# Altium footprint library IC.PcbLib: 29 footprints (part 1 of 2)
Each footprint in its own frame and in the unit in brackets; x right, y up, seen from the top. Pads: shape width x height; smd on the part's side, far side on the other; paste and mask are expansions set on the pad; w line width, h text height; cw(c..) or ccw(c..) is an arc to the next point about the centre after c.
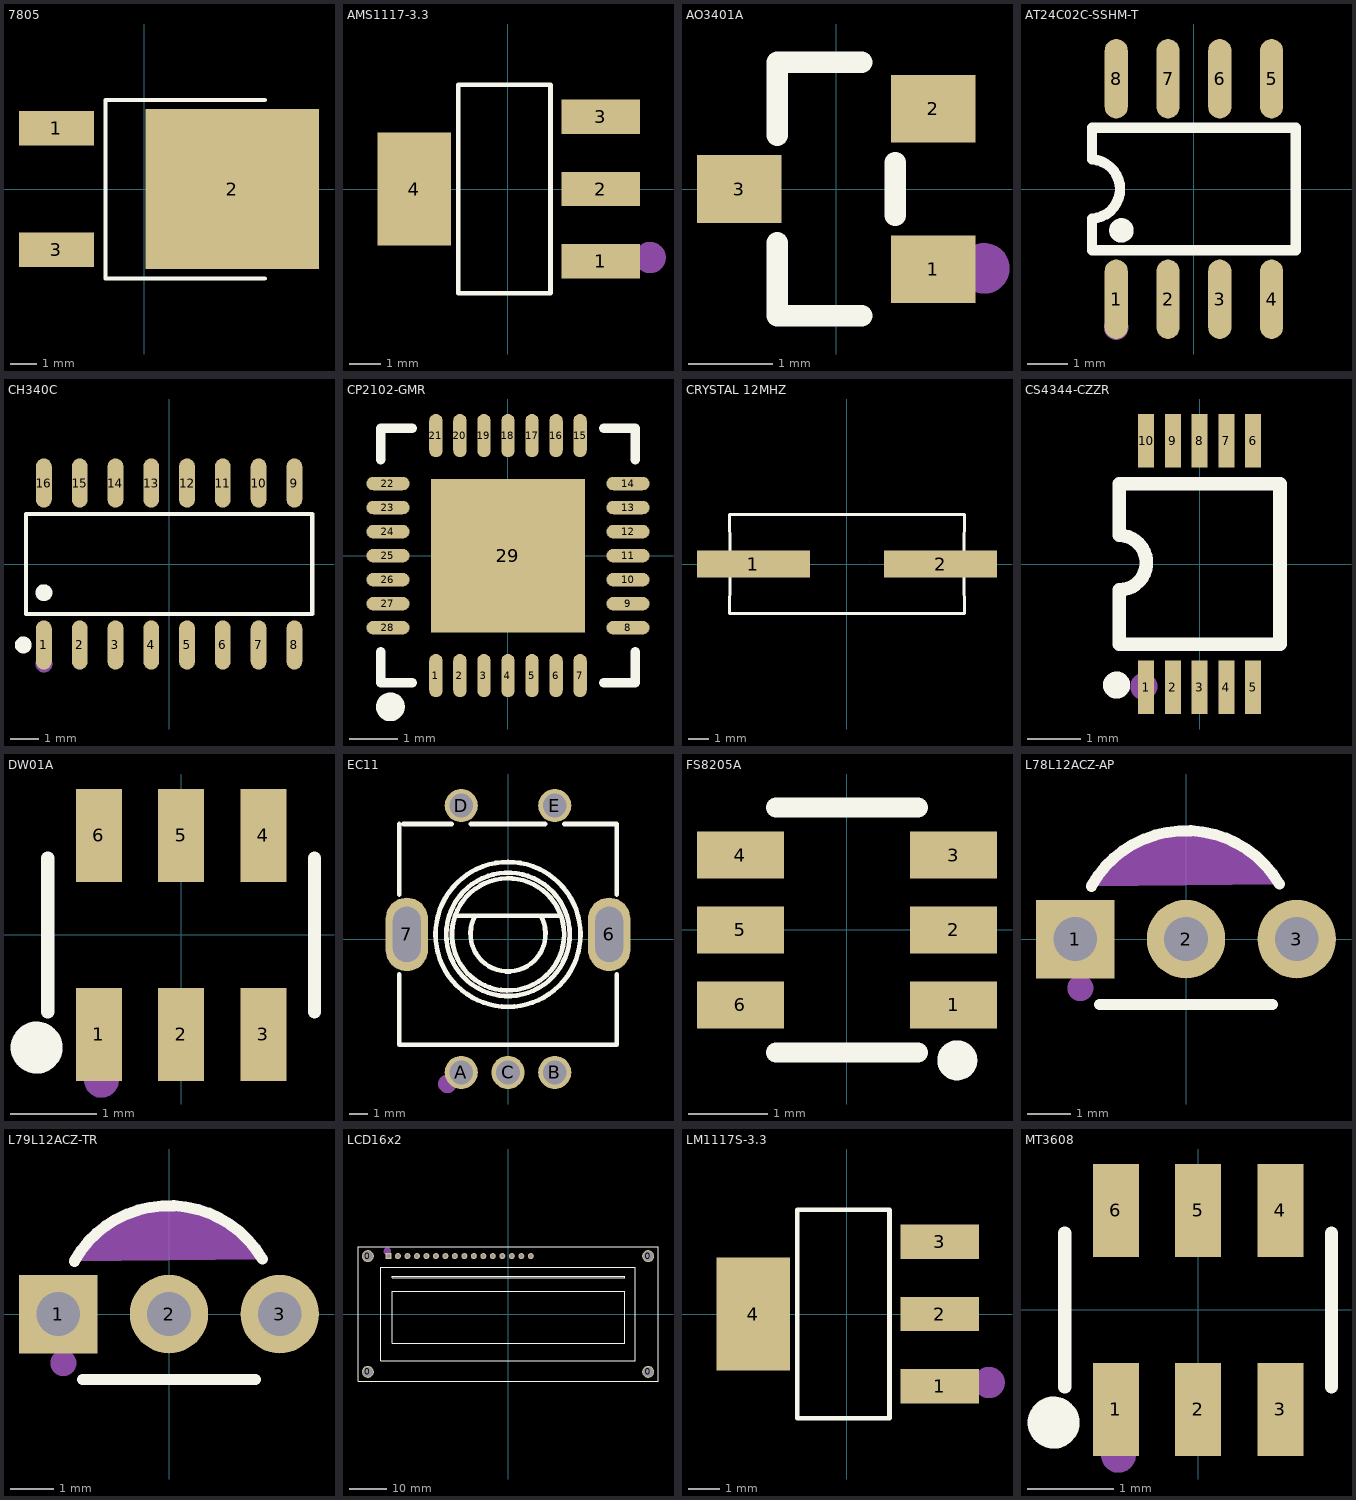
[diagram p0: the footprints below, top view; thin cyan lines are the x and y axes]

## 7805 [mm]
pads (3):
  rect 2.8x1.3 smd paste+0 mask+0.051: 1(-3.292,2.273) 3(-3.292,-2.273)
  rect 6.5x6 smd paste+0 mask+0.051: 2(3.292,0)
Top Overlay:
  lines w0.152: 4.511,-3.353 -1.456,-3.353 -1.456,3.34 4.511,3.34
Mechanical 15:
  circle w0.6: c-3.962,2.286 r0.3
3D body "L78M05CDT.STEP": height 2.41, standoff 0, extent -3.328,-3.25 6.397,3.25

## AMS1117-3.3 [mm]
pads (4):
  rect 2.5x1.1 smd paste+0 mask+0.051: 1(2.97,-2.3) 2(2.97,0) 3(2.97,2.3)
  rect 2.34x3.6 smd paste+0 mask+0.051: 4(-2.97,0)
Top Overlay:
  lines w0.152: -1.571,-3.326 -1.571,3.326 1.371,3.326 1.371,-3.326 -1.571,-3.326
Mechanical 15:
  circle w0.5: c4.552,-2.188 r0.25
3D body "step_temp.STEP": height 1.8, standoff 0, extent -3.372,-3.251 3.626,3.251

## AO3401A [mm]
pads (3):
  rect 1x0.8 smd paste+0 mask+0.051: 1(1.15,-0.95) 2(1.15,0.95) 3(-1.15,0)
Top Overlay:
  lines w0.254: -0.7,-0.636 -0.7,-1.5 0.3,-1.5 ; -0.7,0.636 -0.7,1.5 0.3,1.5 ; 0.7,-0.314 0.7,0.314
Mechanical 15:
  circle w0.3: c1.753,-0.94 r0.15
3D body "AO3401--3DModel-STEP-510211.STEP": height 1.26, standoff 0, extent -1.4,-1.45 1.4,1.45

## AT24C02C-SSHM-T [mil]
pads (8):
  oval 22.38x76.78 smd paste+0 mask+2: 1(-75,-106.5) 2(-25,-106.5) 3(25,-106.5) 4(75,-106.5) 5(75,106.5) 6(25,106.5) 7(-25,106.5) 8(-75,106.5)
Top Overlay:
  circle w11.81: c-70,-40 r5.91
  lines w10: -98.43,-28.61 ccw(c-99.99,0) -98.23,28.59 ; -98.42,-28.61 -98.42,-59.05 98.42,-59.05 98.42,59.05 -98.42,59.05 -98.42,28.59
Mechanical 15:
  circle w11.81: c-75,-133.86 r5.91
3D body "SOIC-8.step": height 59.84, standoff 0, extent -96.46,-115.14 96.46,117.14

## CH340C [mm]
pads (16):
  oval 0.56x1.745 smd paste+0 mask+0.051: 1(-4.445,-2.873) 2(-3.175,-2.873) 3(-1.905,-2.873) 4(-0.635,-2.873) 5(0.635,-2.873) 6(1.905,-2.873) 7(3.175,-2.873) 8(4.445,-2.873) 9(4.445,2.873) 10(3.175,2.873) 11(1.905,2.873) 12(0.635,2.873) 13(-0.635,2.873) 14(-1.905,2.873) 15(-3.175,2.873) 16(-4.445,2.873)
Top Overlay:
  circle w0.3: c-4.445,-1.019 r0.15
  circle w0.3: c-5.177,-2.872 r0.15
  lines w0.152: -5.076,-1.771 -5.076,1.771 5.076,1.771 5.076,-1.771 -5.076,-1.771
Mechanical 15:
  circle w0.3: c-4.445,-3.55 r0.15
3D body "CH340C.STEP": height 1.92, standoff 0, extent -4.949,-3.255 5.051,3.205

## CP2102-GMR [mm]
pads (29):
  oval 0.28x0.9 smd paste-100 mask+0.051: 1(-1.501,-2.5) 2(-1.001,-2.5) 3(-0.501,-2.5) 4(0,-2.5) 5(0.5,-2.5) 6(1.001,-2.5) 7(1.501,-2.5) 15(1.501,2.5) 16(1.001,2.5) 17(0.5,2.5) 18(0,2.5) 19(-0.501,2.5) 20(-1.001,2.5) 21(-1.501,2.5)
  oval 0.9x0.28 smd paste-100 mask+0.051: 8(2.5,-1.501) 9(2.5,-1.001) 10(2.5,-0.501) 11(2.5,0) 12(2.5,0.5) 13(2.5,1.001) 14(2.5,1.501) 22(-2.5,1.501) 23(-2.5,1.001) 24(-2.5,0.5) 25(-2.5,0) 26(-2.5,-0.501) 27(-2.5,-1.001) 28(-2.5,-1.501)
  rect 3.2x3.2 smd paste-100 mask+0.051: 29(0,0)
Top Overlay:
  lines w0.2: -2.65,-2 -2.65,-2.65 -2,-2.65 ; -2.65,2 -2.65,2.65 -2,2.65 ; 2,-2.65 2.65,-2.65 2.65,-2 ; 2,2.65 2.65,2.65 2.65,2
  lines w0.3: -2.451,-3 ccw(c-2.45,-3.15) -2.449,-3
Top Paste:
  drawing of 29 lines, arcs and shapes, not listed
3D body "step_temp.STEP": height 1, standoff 0, extent -2.5,-2.5 2.5,2.5

## CRYSTAL 12MHZ [mm]
pads (2):
  rect 5.5x1.3 smd paste+0 mask+0.051: 1(-4.553,0) 2(4.553,0)
Top Overlay:
  lines w0.152: -5.715,-2.413 -5.7,-0.662 -5.715,-2.413 ; -5.715,-2.413 5.715,-2.413 ; -5.715,-2.413 5.715,-2.413 ; -5.715,2.413 5.715,2.413 ; -5.715,2.413 -5.7,0.662 -5.715,2.413 ; -5.715,2.413 5.715,2.413 ; 5.715,-2.413 5.7,-0.662 5.715,-2.413 ; 5.715,2.413 5.7,0.662 5.715,2.413
Mechanical 15:
  lines w0.003: 1.079,0.127 1.08,0.127
3D body "Crystal 12Mhz.STEP": height 4.2, standoff 0, extent -6.35,-2.35 6.35,2.35

## CS4344-CZZR [mm]
pads (10):
  rect 0.3x1 smd paste+0 mask+0.051: 1(-1,-2.3) 2(-0.5,-2.3) 3(0,-2.3) 4(0.5,-2.3) 5(1,-2.3) 6(1,2.3) 7(0.5,2.3) 8(0,2.3) 9(-0.5,2.3) 10(-1,2.3)
Top Overlay:
  circle w0.254: c-1.549,-2.261 r0.127
  lines w0.254: -1.501,-0.483 ccw(c-1.501,0.025) -1.5,0.533 -1.5,1.5 1.5,1.5 1.5,-1.5 -1.5,-1.5 -1.5,-0.483
Mechanical 15:
  circle w0.254: c-1.041,-2.286 r0.127
3D body "TSSOP-10-3mm.STEP": height 1.11, standoff 0, extent -1.5,-2.45 1.5,2.45

## DW01A [mm]
pads (6):
  rect 0.532x1.072 smd paste+0 mask+0.051: 1(-0.95,-1.149) 2(0,-1.149) 3(0.95,-1.149) 4(0.95,1.149) 5(0,1.149) 6(-0.95,1.149)
Top Overlay:
  circle w0.3: c-1.668,-1.301 r0.15
  lines w0.152: -1.539,-0.889 -1.539,0.889 ; 1.539,-0.889 1.539,0.889
Mechanical 15:
  circle w0.2: c-0.92,-1.68 r0.1
3D body "SOT-23-6.STEP": height 1.46, standoff 0, extent -1.45,-1.425 1.45,1.375

## EC11 [mm]
pads (7):
  oval 2.3x4 hole 1.5 slot 3 at 90 deg paste-2539.97 mask+0.051: 6(5.5,0.25) 7(-5.5,0.25)
  round 1.8 hole 1.3 paste-2539.97 mask+0.051: A(-2.54,-7.25) B(2.54,-7.25) C(0,-7.25) D(-2.54,7.25) E(2.54,7.25)
Top Overlay:
  circle w0.254: c0,0.25 r3.048
  circle w0.254: c0,0.25 r3.353
  circle w0.254: c0,0.25 r3.937
  lines w0.254: -5.9,-1.922 -5.9,-5.75 5.9,-5.75 5.9,-1.922 ; -5.9,2.422 -5.9,6.25 ; -5.69,6.25 -3.066,6.25 ; -2.794,1.266 2.794,1.266 ; -2.014,6.25 2.014,6.25 ; -1.778,1.266 ccw(c0,0.272) 1.778,1.266 ; 3.066,6.25 5.9,6.25 5.9,2.422
Mechanical 15:
  circle w0.5: c-3.302,-7.874 r0.25
3D body "ec11e18244a5.stp": height 25.98, standoff -2.02, extent -6.489,-7.475 6.604,7.475

## FS8205A [mm]
pads (6):
  rect 1.1x0.6 smd paste+0 mask+0.051: 1(1.35,-0.95) 2(1.35,0) 3(1.35,0.95) 4(-1.35,0.95) 5(-1.35,0) 6(-1.35,-0.95)
Top Overlay:
  circle w0.254: c1.397,-1.651 r0.127
  lines w0.254: -0.9,-1.55 0.9,-1.55 ; -0.9,1.55 0.9,1.55
Mechanical 15:
  circle w0.2: c1.4,-0.95 r0.1
3D body "SOT-23-6.STEP": height 1.46, standoff 0, extent -1.4,-1.475 1.4,1.425

## L78L12ACZ-AP [mm]
pads (3):
  rect 1.8x1.8 hole 1 paste-2539.97 mask+0.051: 1(-2.54,0)
  round 1.8 hole 1 paste-2539.97 mask+0.051: 2(0,0) 3(2.54,0)
Top Overlay:
  lines w0.254: -2.171,1.211 cw(c0,0) 2.144,1.26 ; -1.98,-1.5 1.98,-1.5
Mechanical 15:
  circle w0.3: c-2.422,-1.124 r0.15
  region: 2.144,1.26 2.033,1.448 1.75,1.78 1.413,2.058 1.033,2.272 0.621,2.418 0.19,2.489 -0.246,2.484 -0.675,2.403 -1.083,2.249 -1.459,2.026 -1.789,1.74 -2.065,1.402 -2.171,1.211
3D body "TO92.step": height 7.24, standoff -2.46, extent -2.84,-1.5 2.84,2.4

## L79L12ACZ-TR [mm]
pads (3):
  rect 1.8x1.8 hole 1 paste-2539.97 mask+0.051: 1(-2.54,0)
  round 1.8 hole 1 paste-2539.97 mask+0.051: 2(0,0) 3(2.54,0)
Top Overlay:
  lines w0.254: -2.171,1.211 cw(c0,0) 2.144,1.26 ; -1.98,-1.5 1.98,-1.5
Mechanical 15:
  circle w0.3: c-2.422,-1.124 r0.15
  region: 2.144,1.26 2.033,1.448 1.75,1.78 1.413,2.058 1.033,2.272 0.621,2.418 0.19,2.489 -0.246,2.484 -0.675,2.403 -1.083,2.249 -1.459,2.026 -1.789,1.74 -2.065,1.402 -2.171,1.211
3D body "TO92.step": height 7.24, standoff -2.46, extent -2.84,-1.5 2.84,2.4

## LCD16x2 [mm]
pads (20):
  round 3.2 hole 2.5 slot 2.625 at 0 deg paste-2539.97 mask+0.051: 0(-37.5,-15.5) 0(-37.5,15.5) 0(37.5,-15.5) 0(37.5,15.5)
  rect 1.6x1.6 hole 1 paste-2539.97 mask+0.051: 1(-32,15.5)
  round 1.6 hole 1 paste-2539.97 mask+0.051: 2(-29.46,15.5) 3(-26.92,15.5) 4(-24.38,15.5) 5(-21.84,15.5) 6(-19.3,15.5) 7(-16.76,15.5) 8(-14.22,15.5) 9(-11.68,15.5) 10(-9.14,15.5) 11(-6.6,15.5) 12(-4.06,15.5) 13(-1.52,15.5) 14(1.02,15.5) 15(3.56,15.5) 16(6.1,15.5)
Top Overlay:
  lines w0.2: -40.132,-18.034 -40.132,18.034 40.132,18.034 40.132,-18.034 -40.132,-18.034 ; -34.036,-12.446 -34.036,12.446 34.036,12.446 34.036,-12.446 -34.036,-12.446 ; -30.988,-7.874 -30.988,6.096 31.242,6.096 31.242,-7.874 -30.988,-7.874 ; -30.988,9.652 -30.988,10.16 31.242,10.16 31.242,9.652 -30.988,9.652
Mechanical 15:
  circle w1: c-32.258,16.764 r0.5
3D body "LCD-16X2.STEP": height 10.2, standoff -3, extent -39.975,-18.025 40.025,17.975

## LM1117S-3.3 [mm]
pads (4):
  rect 2.5x1.1 smd paste+0 mask+0.051: 1(2.97,-2.3) 2(2.97,0) 3(2.97,2.3)
  rect 2.34x3.6 smd paste+0 mask+0.051: 4(-2.97,0)
Top Overlay:
  lines w0.152: -1.571,-3.326 -1.571,3.326 1.371,3.326 1.371,-3.326 -1.571,-3.326
Mechanical 15:
  circle w0.5: c4.552,-2.188 r0.25
3D body "SOT-223.STEP": height 1.82, standoff -0.22, extent -3.66,-3.25 3.712,3.25

## MT3608 [mm]
pads (6):
  rect 0.532x1.072 smd paste+0 mask+0.051: 1(-0.95,-1.149) 2(0,-1.149) 3(0.95,-1.149) 4(0.95,1.149) 5(0,1.149) 6(-0.95,1.149)
Top Overlay:
  circle w0.3: c-1.668,-1.301 r0.15
  lines w0.152: -1.539,-0.889 -1.539,0.889 ; 1.539,-0.889 1.539,0.889
Mechanical 15:
  circle w0.2: c-0.92,-1.68 r0.1
3D body "MT3608--3DModel-STEP-56544.STEP": height 1.46, standoff 0, extent -1.45,-1.4 1.45,1.4